# Altium footprint library RSX_Diodes.PcbLib: 2 footprints
Each footprint in its own frame and in the unit in brackets; x right, y up, seen from the top. Pads: shape width x height; smd on the part's side, far side on the other; paste and mask are expansions set on the pad; w line width, h text height; cw(c..) or ccw(c..) is an arc to the next point about the centre after c.
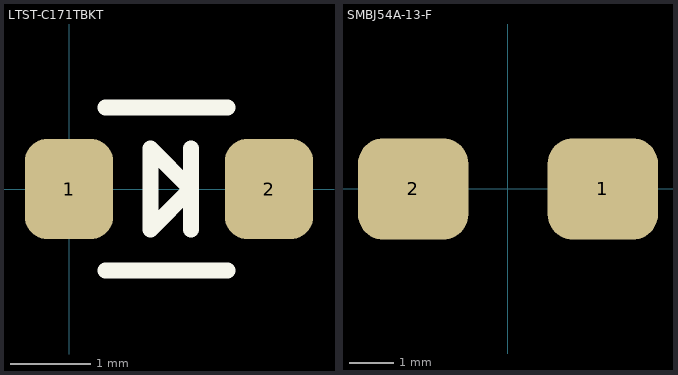
[diagram p0: the footprints below, top view; thin cyan lines are the x and y axes]

## LTST-C171TBKT [mm]
pads (2):
  rrect50% 1.1x1.25 smd paste+0: 1(0,0) 2(2.5,0)
Top Overlay:
  lines w0.2: 0.457,-1.016 1.981,-1.016 ; 0.457,1.016 1.981,1.016 ; 1.524,0.508 1.524,-0.508 1.524,0 ; 1.524,0 1.016,0.508 1.016,0.127 1.016,-0.508 1.524,0

## SMBJ54A-13-F [mm]
pads (2):
  rrect50% 2.5x2.3 smd: 1(2.15,0) 2(-2.15,0)
3D body: height 2.5, standoff 0, extent -2.921,-1.953 2.921,1.953
3D body: height 0.25, standoff 0, extent 2.286,1.651 2.286,1.651
3D body: height 0.25, standoff 0, extent -1.778,-1.524 -1.778,-1.524
3D body: height 0.25, standoff 0, extent -1.905,1.397 -1.905,1.397